# Altium footprint library USB3.0A_DS1095-05.PcbLib: 1 footprints
Each footprint in its own frame and in the unit in brackets; x right, y up, seen from the top. Pads: shape width x height; smd on the part's side, far side on the other; paste and mask are expansions set on the pad; w line width, h text height; cw(c..) or ccw(c..) is an arc to the next point about the centre after c.
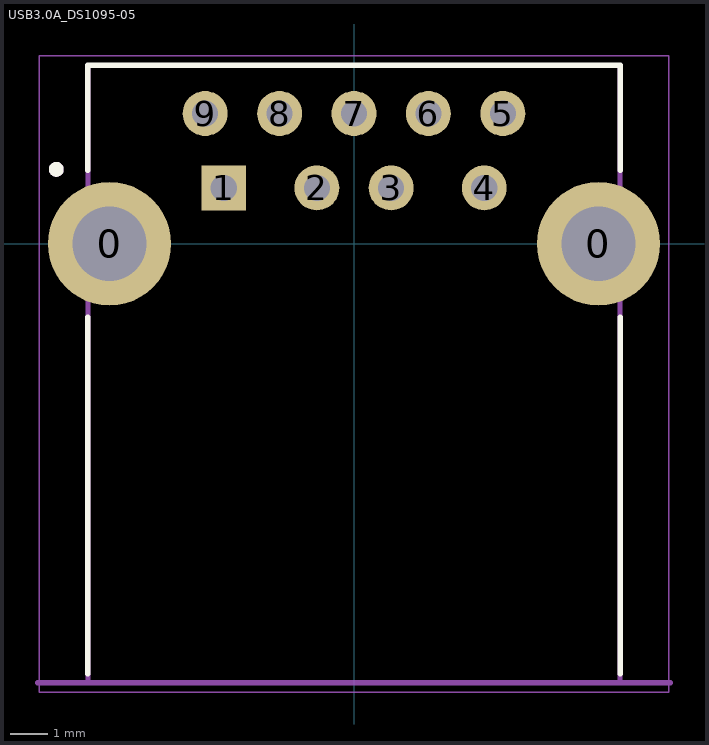
[diagram p0: the footprint, top view; thin cyan lines are the x and y axes]

## USB3.0A_DS1095-05 [mm]
height 7.5
pads (11):
  round 3.316 hole 2: 0(-6.57,0) 0(6.57,0)
  rect 1.208x1.208 / inner round 1.208 / far side rect 1.208x1.208 hole 0.7: 1(-3.5,1.5)
  round 1.208 hole 0.7: 2(-1,1.5) 3(1,1.5) 4(3.5,1.5) 5(4,3.5) 6(2,3.5) 7(0,3.5) 8(-2,3.5) 9(-4,3.5)
Top Overlay:
  circle w0.2: c-8,2 r0.1
  lines w0.15: -7.15,-11.55 -7.15,-1.98 ; -7.15,1.98 -7.15,4.8 7.15,4.8 7.15,1.98 ; 7.15,-11.55 7.15,-1.98
Mechanical 13:
  circle w0.2: c-8,2 r0.1
  lines w0.127: -7.15,-11.8 -7.15,4.8 7.15,4.8 7.15,-11.8
  lines w0.15: -8.5,-11.8 8.5,-11.8
  text "pcb_edge" at -4.605,-11.455 h0.6
Mechanical 15:
  lines w0.05: -8.458,-12.05 -8.458,5.05 8.458,5.05 8.458,-12.05 -8.458,-12.05
3D body "step_temp.STEP": height 7.5, standoff -4.1, extent -7.65,-11.8 7.65,4.8